# Altium schematic symbol library LM339APWR.Schlib: 1 symbol
Pins are listed as number, name and electrical type; pins without a type are passive.

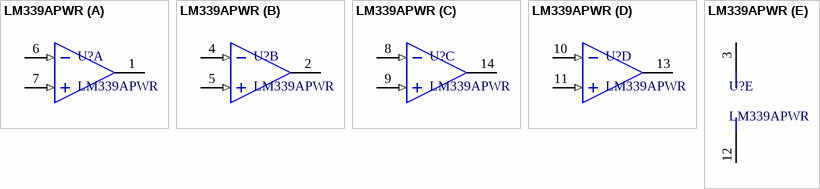
[diagram p0: symbol LM339APWR]

## LM339APWR
designator U?
IC QUAD DIFF COMPARATOR 14-TSSOP
part A pins: 1 OUT1 (oc), 6 IN1- (in), 7 IN1+ (in)
part B pins: 2 OUT2 (oc), 4 IN2- (in), 5 IN2+ (in)
part C pins: 8 IN3- (in), 9 IN3+ (in), 14 OUT3 (oc)
part D pins: 10 IN4- (in), 11 IN4+ (in), 13 OUT4 (oc)
part E pins: 3 V+ (power), 12 V- (power)